# EAGLE library part WIFI-RN-171 (library Pygmy)
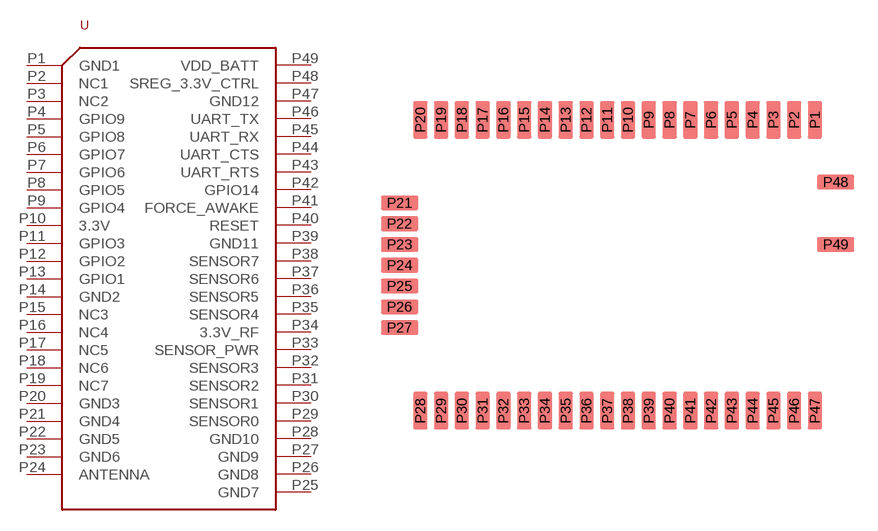
[diagram p73: symbol with the pads of WIFI-RN-171; footprint WIFI-RN-171]

Designator prefix -

## WIFI-RN-171  [WIFI-RN-171]
P1  GND1
P2  NC1
P3  NC2
P4  GPIO9
P5  GPIO8
P6  GPIO7
P7  GPIO6
P8  GPIO5
P9  GPIO4
P10  3.3V
P11  GPIO3
P12  GPIO2
P13  GPIO1
P14  GND2
P15  NC3
P16  NC4
P17  NC5
P18  NC6
P19  NC7
P20  GND3
P21  GND4
P22  GND5
P23  GND6
P24  ANTENNA
P25  GND7
P26  GND8
P27  GND9
P28  GND10
P29  SENSOR0
P30  SENSOR1
P31  SENSOR2
P32  SENSOR3
P33  SENSOR_PWR
P34  3.3V_RF
P35  SENSOR4
P36  SENSOR5
P37  SENSOR6
P38  SENSOR7
P39  GND11
P40  RESET
P41  FORCE_AWAKE
P42  GPIO14
P43  UART_RTS
P44  UART_CTS
P45  UART_RX
P46  UART_TX
P47  GND12
P48  SREG_3.3V_CTRL
P49  VDD_BATT

## Footprint WIFI-RN-171 (pad centres in mm)
smd 0.889 x 2.286: P1 0,0; P2 -1.27,0; P3 -2.54,0; P4 -3.81,0; P5 -5.08,0; P6 -6.35,0; P7 -7.62,0; P8 -8.89,0; P9 -10.16,0; P10 -11.43,0; P11 -12.7,0; P12 -13.97,0; P13 -15.24,0; P14 -16.51,0; P15 -17.78,0; P16 -19.05,0; P17 -20.32,0; P18 -21.59,0; P19 -22.86,0; P20 -24.13,0; P28 -24.13,-17.78; P29 -22.86,-17.78; P30 -21.59,-17.78; P31 -20.32,-17.78; P32 -19.05,-17.78; P33 -17.78,-17.78; P34 -16.51,-17.78; P35 -15.24,-17.78; P36 -13.97,-17.78; P37 -12.7,-17.78; P38 -11.43,-17.78; P39 -10.16,-17.78; P40 -8.89,-17.78; P41 -7.62,-17.78; P42 -6.35,-17.78; P43 -5.08,-17.78; P44 -3.81,-17.78; P45 -2.54,-17.78; P46 -1.27,-17.78; P47 0,-17.78
smd 2.286 x 0.889: P21 -25.4,-5.08; P22 -25.4,-6.35; P23 -25.4,-7.62; P24 -25.4,-8.89; P25 -25.4,-10.16; P26 -25.4,-11.43; P27 -25.4,-12.7; P48 1.27,-3.81; P49 1.27,-7.62